# Altium schematic symbol library MCP4725A0T-E_CH.Schlib: 1 symbol
Pins are listed as number, name and electrical type; pins without a type are passive.

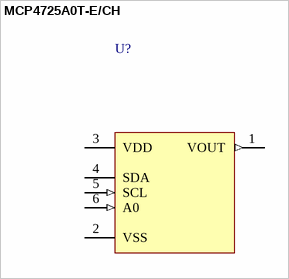
[diagram p0: symbol MCP4725A0T-E/CH]

## MCP4725A0T-E/CH
designator U?
pins: 1 VOUT (out), 2 VSS (power), 3 VDD (power), 4 SDA (oc), 5 SCL (in), 6 A0 (in)